# Altium integrated library Integrated_Library1.IntLib: 30 symbols
Pins are listed as number, name and electrical type; pins without a type are passive.

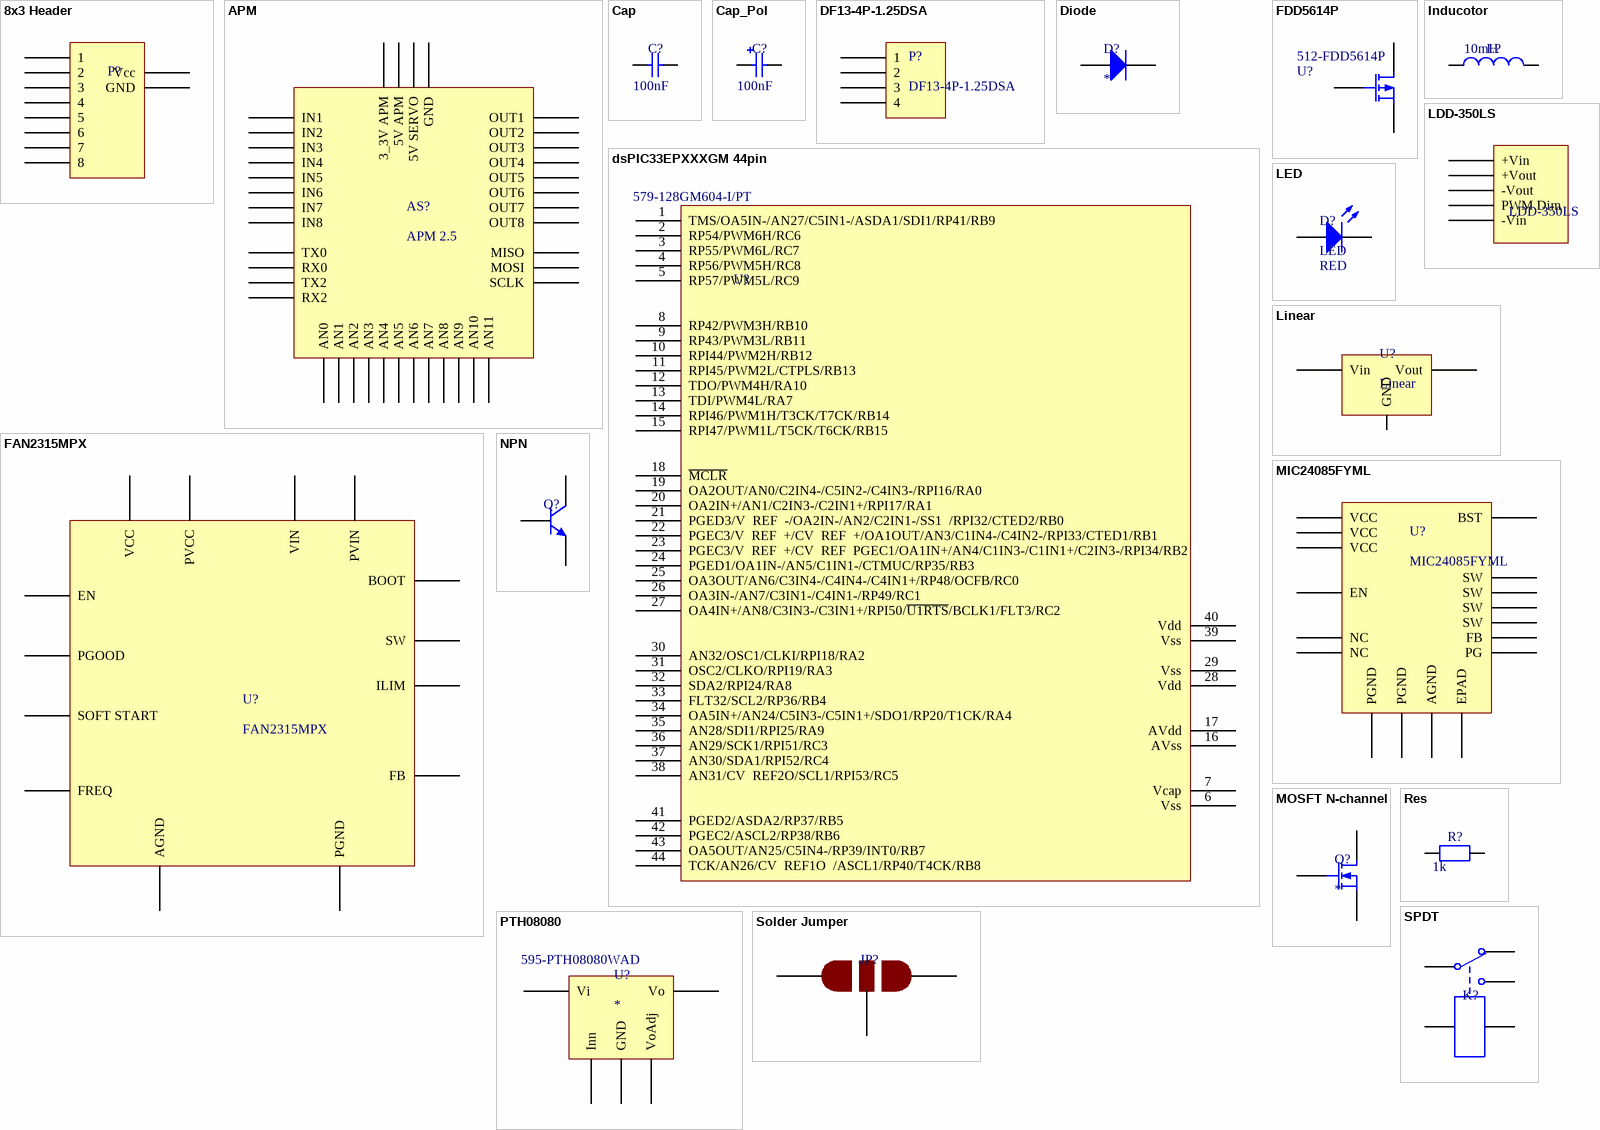
[diagram p0: symbols 8x3 Header to SPDT]

## 8x3 Header
designator P?  (value not drawn)
footprint 8x3 H
pins: 1, 2, 3, 4, 5, 6, 7, 8, GN GND, Vcc

## APM
designator AS?, comment APM 2.5  (no BOM)
footprint APM2.x
footprint APM2.x
pins: 3_3 3_3V APM, 5 5V APM, 5S 5V SERVO, A0 AN0, A1 AN1, A2 AN2, A3 AN3, A4 AN4, A5 AN5, A6 AN6, A7 AN7, A8 AN8, A9 AN9, A10 AN10, A11 AN11, G GND, I1 IN1, I2 IN2, I3 IN3, I4 IN4, I5 IN5, I6 IN6, I7 IN7, I8 IN8, MISO, MOSI, O1 OUT1, O2 OUT2, O3 OUT3, O4 OUT4, O5 OUT5, O6 OUT6, O7 OUT7, O8 OUT8, RX0, RX2, SCLK, TX0, TX2

## Cap
designator C?  value 100nF  (hidden comment: *)
footprint 0805_Cap
footprint 1206_CAP (Chip Capacitor, 2-Leads, Body 3,20x1,60mm, IPC Low Density)
footprint 0603_CAP
pins: 1, 2

## Cap_Pol
designator C?  value 100nF  (hidden comment: *)
footprint 8x10L PolCap
footprint 6.3x5.8 Pol Cap
footprint 1210_Pol (Molded Capacitor, 2-Leads, Body 3,50x2,80mm, IPC Medium Density)
pins: 1 +, 2 -

## DF13-4P-1.25DSA
designator P?
Supplier 1: Mouser; Supplier Part Number 1: 798-DF13-4P-1.25DSA
footprint DF13-4P-1.25DSA
pins: 1, 2, 3, 4

## Diode
designator D?
footprint DO-214AC
footprint TO-252AA (D-PAK, 3-Pads, Body 6,21x6,73mm (max), IPC Medium Density)
pins: A, K

## dsPIC33EPXXXGM 44pin
designator U?  Supplier Part Number 1: 579-128GM604-I/PT  (hidden comment: *)
Supplier 1: Mouser
footprint TQFP80P1200X1200X120-44M (TQFP, 44-Leads, Body 10,00x10,00mm, Pitch 0,80mm, IPC Low Density)
pins: 1 TMS/OA5IN-/AN27/C5IN1-/ASDA1/SDI1/RP41/RB9, 2 RP54/PWM6H/RC6, 3 RP55/PWM6L/RC7, 4 RP56/PWM5H/RC8, 5 RP57/PWM5L/RC9, 6 Vss, 7 Vcap, 8 RP42/PWM3H/RB10, 9 RP43/PWM3L/RB11, 10 RPI44/PWM2H/RB12, 11 RPI45/PWM2L/CTPLS/RB13, 12 TDO/PWM4H/RA10, 13 TDI/PWM4L/RA7, 14 RPI46/PWM1H/T3CK/T7CK/RB14, 15 RPI47/PWM1L/T5CK/T6CK/RB15, 16 AVss, 17 AVdd, 18 ~{MCLR}, 19 OA2OUT/AN0/C2IN4-/C5IN2-/C4IN3-/RPI16/RA0, 20 OA2IN+/AN1/C2IN3-/C2IN1+/RPI17/RA1, 21 PGED3/V  REF  -/OA2IN-/AN2/C2IN1-/SS1  /RPI32/CTED2/RB0, 22 PGEC3/V  REF  +/CV  REF  +/OA1OUT/AN3/C1IN4-/C4IN2-/RPI33/CTED1/RB1, 23 PGEC3/V  REF  +/CV  REF  PGEC1/OA1IN+/AN4/C1IN3-/C1IN1+/C2IN3-/RPI34/RB2, 24 PGED1/OA1IN-/AN5/C1IN1-/CTMUC/RP35/RB3, 25 OA3OUT/AN6/C3IN4-/C4IN4-/C4IN1+/RP48/OCFB/RC0, 26 OA3IN-/AN7/C3IN1-/C4IN1-/RP49/RC1, 27 OA4IN+/AN8/C3IN3-/C3IN1+/RPI50/~{U1RTS}/BCLK1/FLT3/RC2, 28 Vdd, 29 Vss, 30 AN32/OSC1/CLKI/RPI18/RA2, 31 OSC2/CLKO/RPI19/RA3, 32 SDA2/RPI24/RA8, 33 FLT32/SCL2/RP36/RB4, 34 OA5IN+/AN24/C5IN3-/C5IN1+/SDO1/RP20/T1CK/RA4, 35 AN28/SDI1/RPI25/RA9, 36 AN29/SCK1/RPI51/RC3, 37 AN30/SDA1/RPI52/RC4, 38 AN31/CV  REF2O/SCL1/RPI53/RC5, 39 Vss, 40 Vdd, 41 PGED2/ASDA2/RP37/RB5, 42 PGEC2/ASCL2/RP38/RB6, 43 OA5OUT/AN25/C5IN4-/RP39/INT0/RB7, 44 TCK/AN26/CV  REF1O  /ASCL1/RP40/T4CK/RB8

## FAN2315MPX
designator U?
Supplier 1: Digi-Key; Supplier Part Number 1: FAN2315MPXCT-ND
footprint Fan2315
pins: 1 VIN, 2 SW, 3 BOOT, 4 AGND, 5 PVIN, 18 PGND, 24 ILIM, 25 PVCC, 26 VCC, 27 FB, 29 EN, 30 PGOOD, 31 SOFT START, 32 FREQ

## FDD5614P
designator U?  Supplier Part Number 1: 512-FDD5614P
Supplier 1: Mouser
footprint TO-252 (D-PAK, 3-Pads, Body 6,00x6,73mm (max), IPC Medium Density)
pins: D, G, S

## Inducotor
designator L?  value 10mH  (hidden comment: *)
footprint IHLP4040
footprint SRN6045
footprint SRR1260-120M
pins: 1, 2

## LDD-350LS
designator U?
footprint LDD-350LS
footprint LDD-350L_THT
pins: 1 +Vin, 2 +Vout, 3 -Vout, 4 PWM Dim, 5 -Vin

## LED
designator D?  Color: RED
pins: 1 A, 2 K

## Linear
designator U?
footprint TO-263
footprint SOT230P700X180-4M (SOT223, 4-Leads, Body 6,50x7,00mm (avg), Pitch 2,30mm, IPC Low Density)
pins: GN GND, Vin, Vout

## MIC24085FYML
designator U?
Supplier 1: Digi-Key; Supplier Part Number 1: 576-4451-1-ND
footprint QFN16
pins: 1 SW, 2 VCC, 3 VCC, 4 AGND, 5 FB, 6 NC, 7 NC, 8 PG, 9 EN, 10 BST, 11 VCC, 12 SW, 13 SW, 14 PGND, 15 PGND, 16 SW, PAD EPAD

## MOSFT N-channel
designator Q?
Supplier 1: Mouser; Supplier Part Number 1: 771-2N7002P-215
footprint SOT23
pins: D, G, S

## NPN
designator Q?  (value not drawn)
footprint SOT23
pins: B, C, E

## PTH08080
designator U?  Supplier Part Number 1: 595-PTH08080WAD
Supplier 1: Mouser
footprint PTH08080_trough_hole
pins: 1 Vi, 2 GND, 3 Vo, 4 VoAdj, 5 Inn

## Res
designator R?  value 1k  (hidden comment: *)
footprint 0805_Res
footprint 1206_Res
footprint 0603_RES (Chip Resistor, 2-Leads, Body 1,57x0,85mm, IPC Medium Density)
pins: 1, 2

## Solder Jumper
designator JP?, comment Solder Pad jumper  (value not drawn)  (no BOM)
footprint SolderJumper
pins: 1 0, 2 1, 3 2

## SPDT
designator K?, comment Relay  (value not drawn)
footprint G5LA
pins: 1, 2 4, 3, 4 2, 5

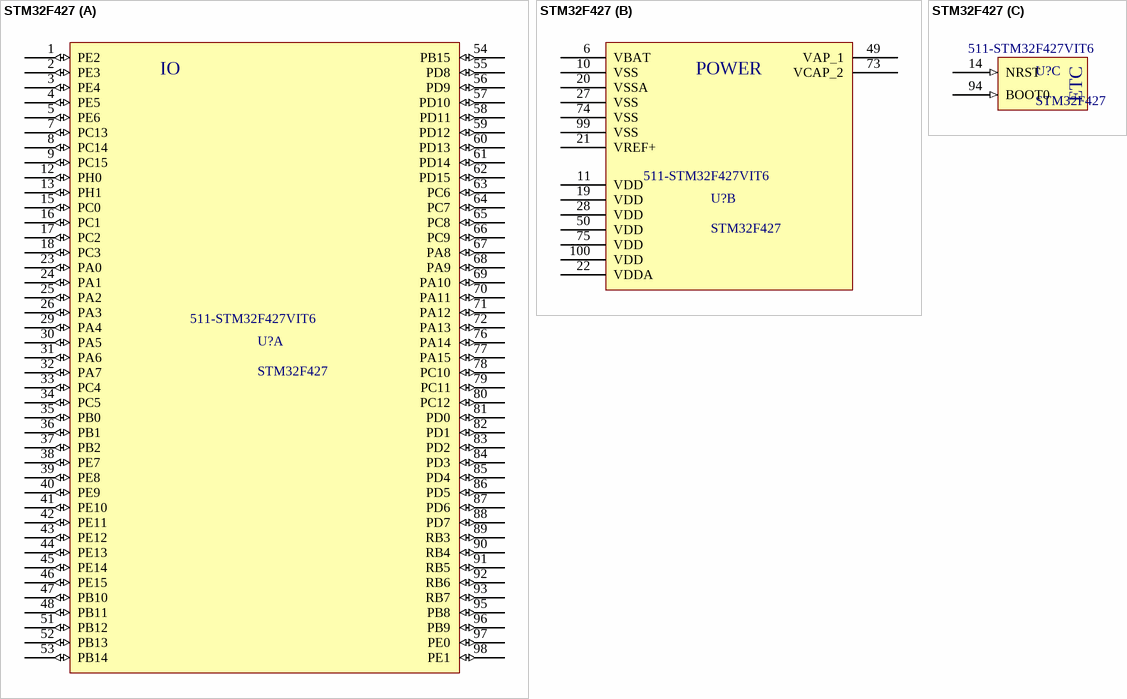
[diagram p1: symbol STM32F427]

## STM32F427
designator U?  Supplier Part Number 1: 511-STM32F427VIT6
Supplier 1: Mouser
footprint TSQFP50P1600X1600X160-100N (TSQFP, 100-Leads, Body 14,00x14,00mm, Pitch 0,50mm, IPC Medium Density)
part A pins: 1 PE2 (io), 2 PE3 (io), 3 PE4 (io), 4 PE5 (io), 5 PE6 (io), 7 PC13 (io), 8 PC14 (io), 9 PC15 (io), 12 PH0 (io), 13 PH1 (io), 15 PC0 (io), 16 PC1 (io), 17 PC2 (io), 18 PC3 (io), 23 PA0 (io), 24 PA1 (io), 25 PA2 (io), 26 PA3 (io), 29 PA4 (io), 30 PA5 (io), 31 PA6 (io), 32 PA7 (io), 33 PC4 (io), 34 PC5 (io), 35 PB0 (io), 36 PB1 (io), 37 PB2 (io), 38 PE7 (io), 39 PE8 (io), 40 PE9 (io), 41 PE10 (io), 42 PE11 (io), 43 PE12 (io), 44 PE13 (io), 45 PE14 (io), 46 PE15 (io), 47 PB10 (io), 48 PB11 (io), 51 PB12 (io), 52 PB13 (io), 53 PB14 (io), 54 PB15 (io), 55 PD8 (io), 56 PD9 (io), 57 PD10 (io), 58 PD11 (io), 59 PD12 (io), 60 PD13 (io), 61 PD14 (io), 62 PD15 (io), 63 PC6 (io), 64 PC7 (io), 65 PC8 (io), 66 PC9 (io), 67 PA8 (io), 68 PA9 (io), 69 PA10 (io), 70 PA11 (io), 71 PA12 (io), 72 PA13 (io), 76 PA14 (io), 77 PA15 (io), 78 PC10 (io), 79 PC11 (io), 80 PC12 (io), 81 PD0 (io), 82 PD1 (io), 83 PD2 (io), 84 PD3 (io), 85 PD4 (io), 86 PD5 (io), 87 PD6 (io), 88 PD7 (io), 89 RB3 (io), 90 RB4 (io), 91 RB5 (io), 92 RB6 (io), 93 RB7 (io), 95 PB8 (io), 96 PB9 (io), 97 PE0 (io), 98 PE1 (io)
part B pins: 6 VBAT (power), 10 VSS (power), 11 VDD (power), 19 VDD (power), 20 VSSA (power), 21 VREF+ (power), 22 VDDA (power), 27 VSS (power), 28 VDD (power), 49 VAP_1 (power), 50 VDD (power), 73 VCAP_2 (power), 74 VSS (power), 75 VDD (power), 99 VSS (power), 100 VDD (power)
part C pins: 14 NRST (in), 94 BOOT0 (in)
part A text: IO
part B text: POWER
part C text: ETC


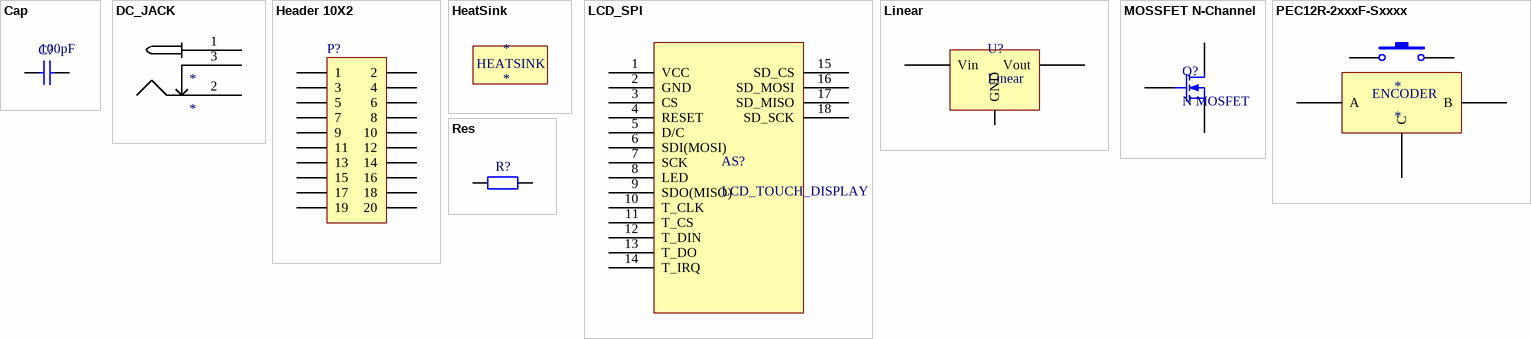
[diagram p2: symbols Cap to Res]

## Cap
designator C?  value 100pF  (hidden comment: Cap)
Capacitor; Published: 8-Jun-2000; LatestRevisionDate: 17-Jul-2002; LatestRevisionNote: Re-released for DXP Platform.; PackageReference: RAD-0.3; Publisher: Altium Limited; PackageDescription: Radial Cap, Thru-Hole; 2 Leads; 0.3 in Pin Spacing
footprint 0603_CAP
footprint 1206_CAP (Chip Capacitor, 2-Leads, Body 3,20x1,60mm, IPC Low Density)
pins: 1, 2

## DC_JACK
designator *
footprint DC_JACK_6.3mm
pins: 1, 2, 3

## Header 10X2
designator P?
Header, 10-Pin, Dual row; LatestRevisionDate: 17-Jul-2002; LatestRevisionNote: Re-released for DXP Platform.; Publisher: Altium Limited
footprint 3M_303_20pin
pins: 1, 2, 3, 4, 5, 6, 7, 8, 9, 10, 11, 12, 13, 14, 15, 16, 17, 18, 19, 20

## HeatSink
designator *
footprint Heat_Sink
text: HEATSINK

## LCD_SPI
designator AS?, comment LCD_TOUCH_DISPLAY
http://www.ebay.co.uk/itm/240x320-2-4-SPI-TFT-LCD-Touch-Panel-Serial-Port-Module-with-PBC-ILI9341-5V-3-3V-/121414443081?pt=UK_BOI_Electrical_Components_Supplies_ET&hash=item1c44dd6049
footprint LCD_SPI (http://www.ebay.co.uk/itm/240x320-2-4-SPI-TFT-LCD-Touch-Panel-Serial-Port-Module-with-PBC-ILI9341-5V-3-3V-/121414443081?pt=UK_BOI_Electrical_Components_Supplies_ET&hash=item1c44dd6049)
pins: 1 VCC, 2 GND, 3 CS, 4 RESET, 5 D/C, 6 SDI(MOSI), 7 SCK, 8 LED, 9 SDO(MISO), 10 T_CLK, 11 T_CS, 12 T_DIN, 13 T_DO, 14 T_IRQ, 15 SD_CS, 16 SD_MOSI, 17 SD_MISO, 18 SD_SCK

## Linear
designator U?
footprint TO-263
footprint SOT230P700X180-4M (SOT223, 4-Leads, Body 6,50x7,00mm (avg), Pitch 2,30mm, IPC Low Density)
footprint TO-252 (D-PAK/TO-252-AA; 3 Leads (1 Cropped); Body 10.1 (inc. leads) x 6.6 mm (LxW max)); pin to pad GN>1 Vin>3 Vout>4
pins: GN GND, Vin, Vout

## MOSSFET N-Channel
designator Q?, comment N MOSFET
N-channel MOSFET; R(ds): 100m; I(d): 10A; V(gs): 30V; V(ds): 200V; V(gs)min: V
footprint TO220V (TO, Thru-Hole, Vertical, Heatsink Mounted; 3 In-Line Leads; Pitch 2.54 mm; Pin sequence 1, 3, 2)
pins: 1 D, 2 G, 3 S

## PEC12R-2xxxF-Sxxxx
designator *
footprint Rotary_encoder_ver
pins: 1, 2, A, B, C
text: ENCODER

## Res
designator R?  (value not drawn)
Power: 0.125W; Tolerance: 1%; Value: 1K; Part_number: *
footprint 2512_Res (2512 Resitor)
footprint 100W_res
footprint 0603_RES (Chip Resistor, 2-Leads, Body 1,57x0,85mm, IPC Medium Density)
pins: 1, 2